# Altium footprint library DI_LED_5MM.PcbLib: 1 footprints
Each footprint in its own frame and in the unit in brackets; x right, y up, seen from the top. Pads: shape width x height; smd on the part's side, far side on the other; paste and mask are expansions set on the pad; w line width, h text height; cw(c..) or ccw(c..) is an arc to the next point about the centre after c.
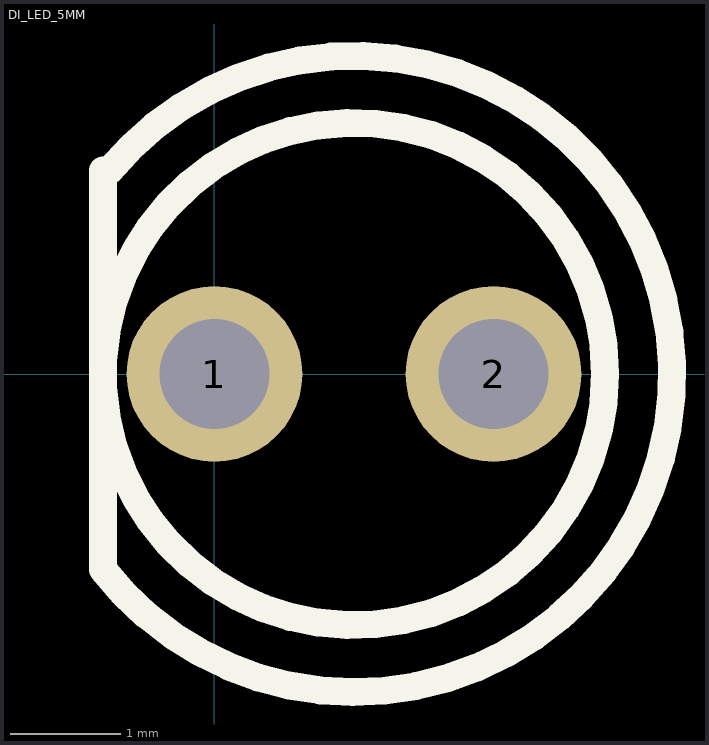
[diagram p0: the footprint, top view; thin cyan lines are the x and y axes]

## DI_LED_5MM [mm] "LED 5mm"
pads (2):
  round 1.6 hole 1: 1(0,0) 2(2.54,0)
Top Overlay:
  circle w0.254: c1.27,0 r2.286
  lines w0.254: -1.016,1.854 -1.016,-1.778 ccw(c1.27,0) -0.955,1.854
3D body: height 8.6, standoff -5, extent -1.28,-2.55 3.82,2.55